# Altium schematic symbol library DS28E07&plus_T.SchLib: 1 symbol
Pins are listed as number, name and electrical type; pins without a type are passive.

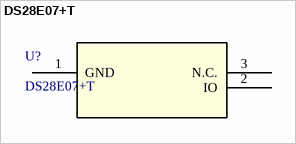
[diagram p0: symbol DS28E07+T]

## DS28E07+T
designator U?
1024-Bit, 1-Wire EEPROM; Manufacturer_Name: Analog Devices Inc; Copyright: Copyright (C) 2026 Ultra Librarian. All rights reserved.; Manufacturer_Part_Number: DS28E07+T; RefDes: RefDes; Type: Type
footprint 21-0250_Q3+4_MXM
pins: 1 GND (power), 2 IO, 3 N.C.